# Altium footprint library PCB22.PcbLib: 38 footprints (part 2 of 3)
Each footprint in its own frame and in the unit in brackets; x right, y up, seen from the top. Pads: shape width x height; smd on the part's side, far side on the other; paste and mask are expansions set on the pad; w line width, h text height; cw(c..) or ccw(c..) is an arc to the next point about the centre after c.
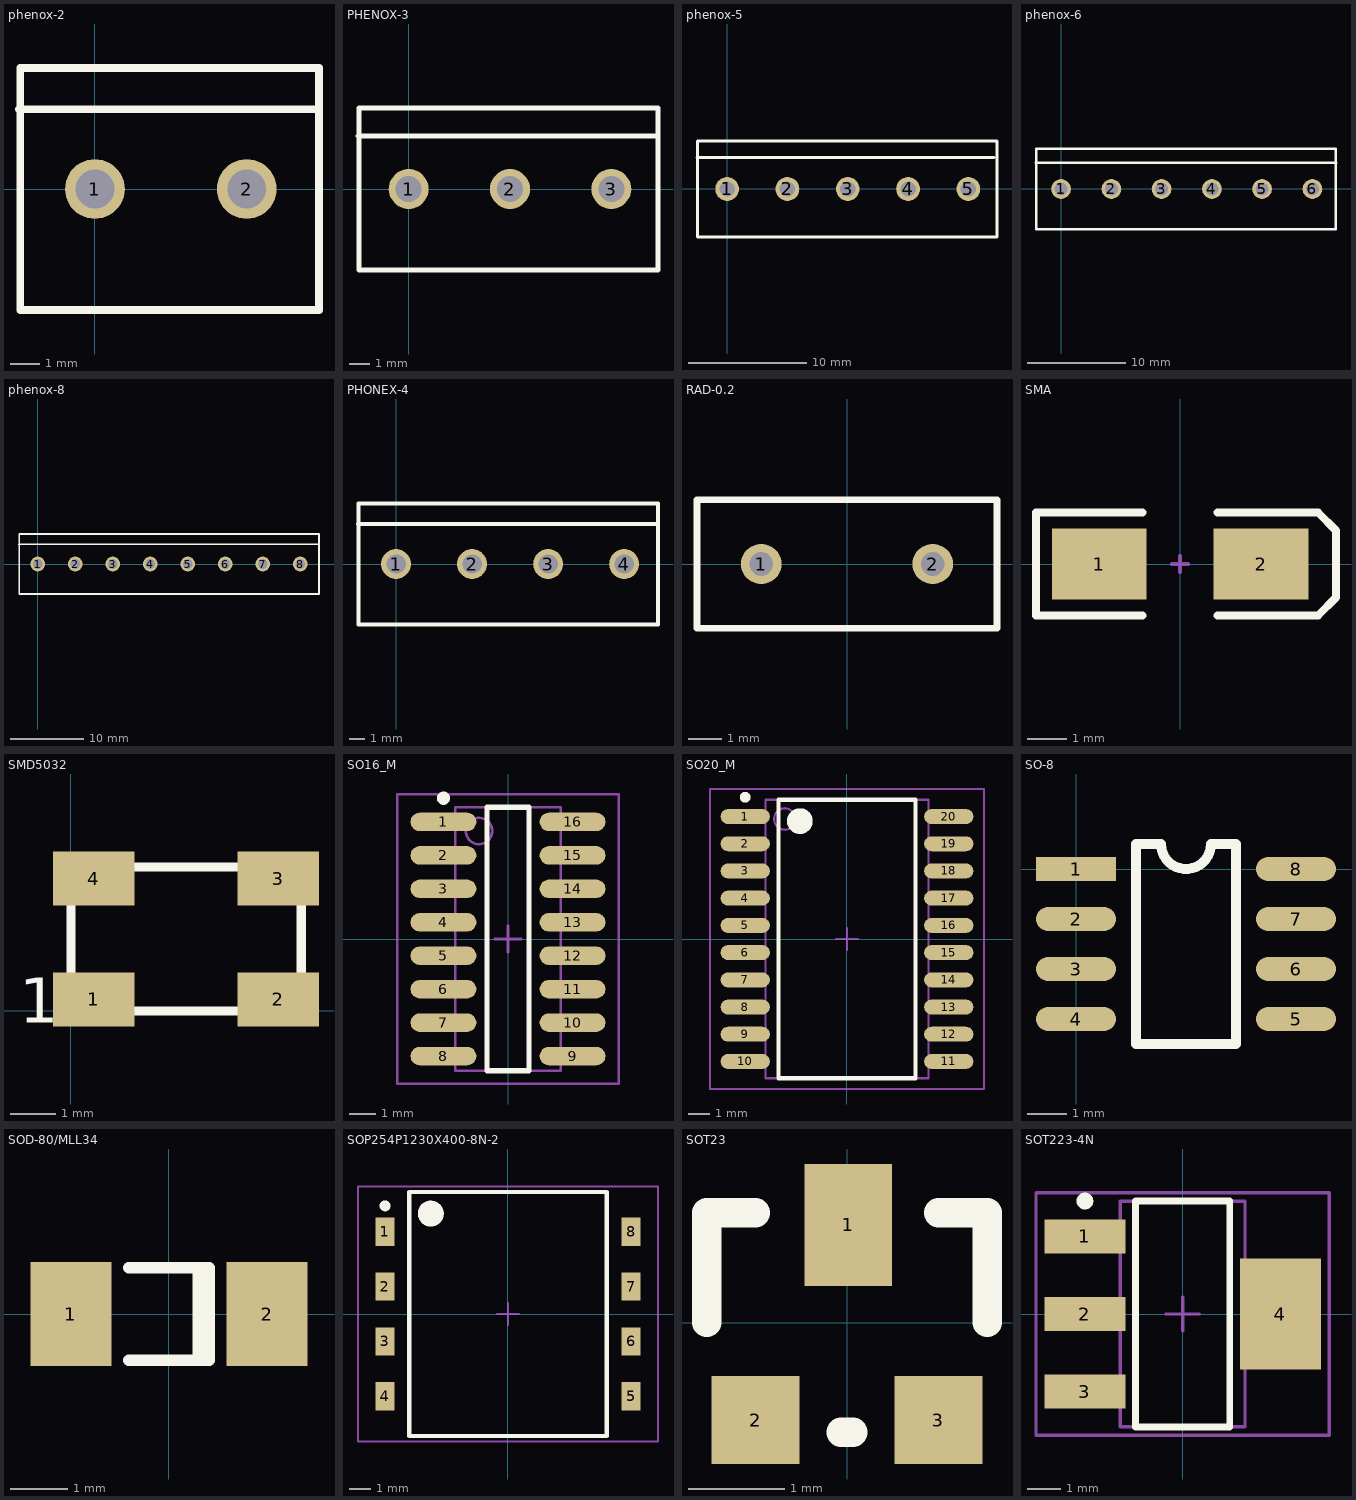
[diagram p1: the footprints below, top view; thin cyan lines are the x and y axes]

## phenox-2 [mm]
pads (2):
  round 2 hole 1.3: 1(0,0) 2(5.08,0)
Top Overlay:
  lines w0.254: -2.54,2.667 7.493,2.667 ; -2.5,-4.064 -2.5,4.064 ; -2.5,-4.05 7.493,-4.05 ; -2.5,4.05 7.493,4.05 ; 7.5,-4.064 7.5,4.064

## PHENOX-3 [mm]
pads (3):
  round 2 hole 1.3: 1(0,0) 2(5.08,0) 3(10.16,0)
Top Overlay:
  lines w0.254: -2.54,2.667 12.5,2.667 ; -2.5,-4.064 -2.5,4.064 ; -2.5,-4.05 12.5,-4.05 ; -2.5,4.05 12.5,4.05 ; 12.5,-4.064 12.5,4.064

## phenox-5 [mm]
pads (5):
  round 2 hole 1.3: 1(0,0) 2(5.08,0) 3(10.16,0) 4(15.24,0) 5(20.32,0)
Top Overlay:
  lines w0.254: -2.54,2.667 22.5,2.667 ; -2.5,-4.064 -2.5,4.064 ; -2.5,-4.05 22.733,-4.05 22.733,4.05 -2.5,4.05

## phenox-6 [mm]
pads (6):
  round 2 hole 1.3: 1(0,0) 2(5.08,0) 3(10.16,0) 4(15.24,0) 5(20.32,0) 6(25.4,0)
Top Overlay:
  lines w0.254: -2.54,2.667 27.788,2.667 ; -2.5,-4.064 -2.5,4.064 ; -2.5,-4.05 27.78,-4.05 27.78,4.05 -2.5,4.05

## phenox-8 [mm]
pads (8):
  round 2 hole 1.3: 1(0,0) 2(5.08,0) 3(10.16,0) 4(15.24,0) 5(20.32,0) 6(25.4,0) 7(30.48,0) 8(35.56,0)
Top Overlay:
  lines w0.254: -2.54,2.667 38.1,2.667 ; -2.5,-4.064 -2.5,4.064 ; -2.5,-4.05 38.1,-4.05 38.1,4.05 -2.5,4.05

## PHONEX-4 [mm]
pads (4):
  round 2 hole 1.3: 1(0,0) 2(5.08,0) 3(10.16,0) 4(15.24,0)
Top Overlay:
  lines w0.254: -2.54,2.667 17.5,2.667 ; -2.5,-4.064 -2.5,4.064 ; -2.5,-4.05 17.5,-4.05 ; -2.5,4.05 17.5,4.05 ; 17.5,-4.064 17.5,4.064

## RAD-0.2 [mm] "Radial Cap, Thru-Hole; 2 Leads; 0.2 in Pin Spacing"
pads (2):
  round 1.2 hole 0.7: 1(-2.54,0) 2(2.54,0)
Top Overlay:
  lines w0.2: -4.445,-1.905 4.445,-1.905 4.445,1.905 -4.445,1.905 -4.445,-1.905

## SMA [mm] "DO-214-AC/SMA; 2 C-Bend Leads; Body 5 x 2.7 mm, inc. leads (LxW)"
height 2.44
pads (2):
  rect 2.4x1.8 smd: 1(-2.05,0) 2(2.05,0)
Top Overlay:
  lines w0.2: -0.95,-1.3 -3.65,-1.3 -3.65,1.3 -0.95,1.3 ; 0.95,-1.3 3.5,-1.3 3.95,-0.85 3.95,0.85 3.5,1.3 0.95,1.3
Mechanical 1:
  lines w0.1: -0.2,0 0.2,0 ; 0,-0.2 0,0.2

## SMD5032 [mm]
pads (4):
  rect 1.8x1.2 smd: 1(0.508,0.254) 2(4.572,0.254) 3(4.572,2.921) 4(0.508,2.921)
Top Overlay:
  lines w0.2: 0,3.175 5.08,3.175 5.08,0 ; 0,3.2 0,0 5,0
  text "1" at -1.143,-0.254 h1

## SO16_M [mm] "16-Pin Small Outline Integrated Circuit 1.27 mm Pitch, IPC Low Density"
height 1.75
pads (16):
  oval 2.5x0.7 smd: 1(-2.45,4.445) 2(-2.45,3.175) 3(-2.45,1.905) 4(-2.45,0.635) 5(-2.45,-0.635) 6(-2.45,-1.905) 7(-2.45,-3.175) 8(-2.45,-4.445) 9(2.45,-4.445) 10(2.45,-3.175) 11(2.45,-1.905) 12(2.45,-0.635) 13(2.45,0.635) 14(2.45,1.905) 15(2.45,3.175) 16(2.45,4.445)
Top Overlay:
  circle w0.25: c-2.45,5.345 r0.125
  lines w0.2: -0.8,-5 -0.8,5 0.8,5 0.8,-5 -0.8,-5
Mechanical 13:
  circle w0.1: c-1.1,4.1 r0.5
  lines w0.1: -2,-5 -2,5 2,5 2,-5 -2,-5
Mechanical 15:
  lines w0.1: -0.5,0 0.5,0 ; 0,-0.5 0,0.5 ; -4.2,-5.5 -4.2,5.5 4.2,5.5 4.2,-5.5 -4.2,-5.5
3D body: height 1.75, standoff 0, extent -2,-5 2,5

## SO20_M [mm] "20-Pin Small Outline Package (SO20), IPC Low Density"
height 2.65
pads (20):
  oval 2.3x0.7 smd: 1(-4.75,5.715) 2(-4.75,4.445) 3(-4.75,3.175) 4(-4.75,1.905) 5(-4.75,0.635) 6(-4.75,-0.635) 7(-4.75,-1.905) 8(-4.75,-3.175) 9(-4.75,-4.445) 10(-4.75,-5.715) 11(4.75,-5.715) 12(4.75,-4.445) 13(4.75,-3.175) 14(4.75,-1.905) 15(4.75,-0.635) 16(4.75,0.635) 17(4.75,1.905) 18(4.75,3.175) 20(4.75,5.715)
  oval 2.3x0.7 smd paste+0: 19(4.75,4.445)
Top Overlay:
  circle w0.25: c-4.75,6.615 r0.125
  circle w0.6: c-2.2,5.5 r0.3
  lines w0.2: -3.2,-6.5 -3.2,6.5 3.2,6.5 3.2,-6.5 -3.2,-6.5
Mechanical 13:
  circle w0.1: c-2.9,5.6 r0.5
  lines w0.1: -3.8,-6.5 -3.8,6.5 3.8,6.5 3.8,-6.5 -3.8,-6.5
Mechanical 15:
  lines w0.1: -0.5,0 0.5,0 ; 0,-0.5 0,0.5 ; -6.4,-7 -6.4,7 6.4,7 6.4,-7 -6.4,-7
3D body: height 2.65, standoff 0, extent -3.8,-6.5 3.8,6.5

## SO-8 [mil]
pads (8):
  rect 80x24 smd: 1(0,0)
  oval 80x24 smd: 2(0,-50) 3(0,-100) 4(0,-150) 5(220,-150) 6(220,-100) 7(220,-50) 8(220,0)
Top Overlay:
  lines w10: 60,-175 160,-175 160,25 135,25 cw(c110,25) 85,25 60,25 60,-175

## SOD-80/MLL34 [mm] "Metal Electrode Face (MELF) Diode; Body 3.5 x 1.7 mm (LxDia)"
height 1.7
pads (2):
  rect 1.4x1.8 smd: 1(-1.7,0) 2(1.7,0)
Top Overlay:
  lines w0.2: -0.7,-0.8 0.7,-0.8 0.7,0.8 -0.7,0.8 ; 0.51,-0.8 0.51,0.8

## SOP254P1230X400-8N-2 [mm] "SOP, 8-Leads, Body 11.3x9.1mm (max), Pitch 2.54mm, IPC Medium Density"
height 4
pads (8):
  rect 0.9x1.3 smd: 1(-5.7,3.81) 2(-5.7,1.27) 3(-5.7,-1.27) 4(-5.7,-3.81) 5(5.7,-3.81) 6(5.7,-1.27) 7(5.7,1.27) 8(5.7,3.81)
Top Overlay:
  circle w0.6: c-3.575,4.65 r0.3
  circle w0.25: c-5.7,5.01 r0.125
  lines w0.2: -4.575,-5.65 4.575,-5.65 4.575,5.65 -4.575,5.65 -4.575,-5.65
Mechanical 13:
  circle w0.1: c-3.625,4.7 r0.5
  lines w0.1: -4.575,-5.65 4.575,-5.65 4.575,5.65 -4.575,5.65 -4.575,-5.65
Mechanical 15:
  lines w0.1: -0.5,0 0.5,0 ; 0,-0.5 0,0.5 ; -6.95,-5.9 6.95,-5.9 6.95,5.9 -6.95,5.9 -6.95,-5.9
3D body: height 4, standoff 0.25, extent -4.575,-5.65 4.575,5.65

## SOT23 [mil]
pads (3):
  rect 36x50 smd: 1(0.5,40)
  rect 36x36 smd: 2(-37.5,-40) 3(37.5,-40)
Top Overlay:
  lines w12: -57.5,0 -57.5,45 -37.5,45 ; -2.5,-45 2.5,-45 ; 37.5,45 57.5,45 57.5,0

## SOT223-4N [mm] "SOT223, 4-Leads, Body 6.5x3.5mm, Pitch 2.3mm, Lead Span 7mm, IPC Medium Density"
height 1.7
pads (4):
  rect 2.4x1 smd: 1(-2.9,2.3) 2(-2.9,0) 3(-2.9,-2.3)
  rect 2.4x3.3 smd: 4(2.9,0)
Top Overlay:
  circle w0.25: c-2.9,3.35 r0.125
  lines w0.2: -1.4,-3.35 -1.4,3.35 1.4,3.35 1.4,-3.35 -1.4,-3.35
Mechanical 13:
  lines w0.1: -1.85,-3.35 -1.85,3.35 1.85,3.35 1.85,-3.35 -1.85,-3.35
Mechanical 15:
  lines w0.1: -0.5,0 0.5,0 ; 0,-0.5 0,0.5 ; -4.35,-3.6 -4.35,3.6 4.35,3.6 4.35,-3.6 -4.35,-3.6
3D body: height 1.7, standoff 0, extent -1.85,-3.35 1.85,3.35